# Altium footprint library A3PE600_PLUGA_V2.PcbLib: 1 footprints
Each footprint in its own frame and in the unit in brackets; x right, y up, seen from the top. Pads: shape width x height; smd on the part's side, far side on the other; paste and mask are expansions set on the pad; w line width, h text height; cw(c..) or ccw(c..) is an arc to the next point about the centre after c.
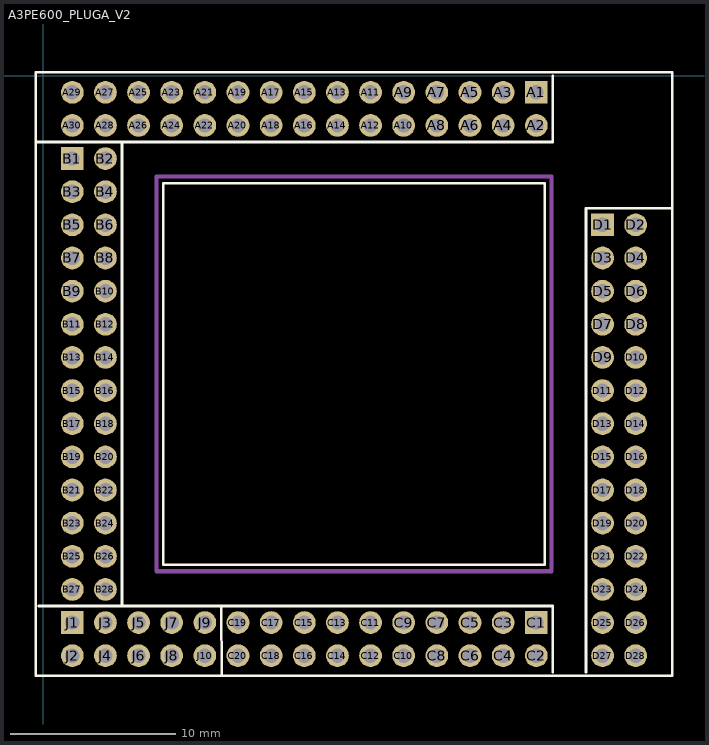
[diagram p0: the footprint, top view; thin cyan lines are the x and y axes]

## A3PE600_PLUGA_V2 [mil]
pads (116):
  rect 54x54 hole 34: A1(1171.26,-39.37) B1(68.9,-196.85) C1(1171.26,-1299.21) D1(1328.74,-354.33) J1(68.9,-1299.21)
  round 54 hole 34: A2(1171.26,-118.11) A3(1092.52,-39.37) A4(1092.52,-118.11) A5(1013.78,-39.37) A6(1013.78,-118.11) A7(935.04,-39.37) A8(935.04,-118.11) A9(856.3,-39.37) A10(856.3,-118.11) A11(777.56,-39.37) A12(777.56,-118.11) A13(698.82,-39.37) A14(698.82,-118.11) A15(620.08,-39.37) A16(620.08,-118.11) A17(541.34,-39.37) A18(541.34,-118.11) A19(462.6,-39.37) A20(462.6,-118.11) A21(383.86,-39.37) A22(383.86,-118.11) A23(305.12,-39.37) A24(305.12,-118.11) A25(226.38,-39.37) A26(226.38,-118.11) A27(147.64,-39.37) A28(147.64,-118.11) A29(68.9,-39.37) A30(68.9,-118.11) B2(147.64,-196.85) B3(68.9,-275.59) B4(147.64,-275.59) B5(68.9,-354.33) B6(147.64,-354.33) B7(68.9,-433.07) B8(147.64,-433.07) B9(68.9,-511.81) B10(147.64,-511.81) B11(68.9,-590.55) B12(147.64,-590.55) B13(68.9,-669.29) B14(147.64,-669.29) B15(68.9,-748.03) B16(147.64,-748.03) B17(68.9,-826.77) B18(147.64,-826.77) B19(68.9,-905.51) B20(147.64,-905.51) B21(68.9,-984.25) B22(147.64,-984.25) B23(68.9,-1062.99) B24(147.64,-1062.99) B25(68.9,-1141.73) B26(147.64,-1141.73) B27(68.9,-1220.47) B28(147.64,-1220.47) C2(1171.26,-1377.95) C3(1092.52,-1299.21) C4(1092.52,-1377.95) C5(1013.78,-1299.21) C6(1013.78,-1377.95) C7(935.04,-1299.21) C8(935.04,-1377.95) C9(856.3,-1299.21) C10(856.3,-1377.95) C11(777.56,-1299.21) C12(777.56,-1377.95) C13(698.82,-1299.21) C14(698.82,-1377.95) C15(620.08,-1299.21) C16(620.08,-1377.95) C17(541.34,-1299.21) C18(541.34,-1377.95) C19(462.6,-1299.21) C20(462.6,-1377.95) D2(1407.48,-354.33) D3(1328.74,-433.07) D4(1407.48,-433.07) D5(1328.74,-511.81) D6(1407.48,-511.81) D7(1328.74,-590.55) D8(1407.48,-590.55) D9(1328.74,-669.29) D10(1407.48,-669.29) D11(1328.74,-748.03) D12(1407.48,-748.03) D13(1328.74,-826.77) D14(1407.48,-826.77) D15(1328.74,-905.51) D16(1407.48,-905.51) D17(1328.74,-984.25) D18(1407.48,-984.25) D19(1328.74,-1062.99) D20(1407.48,-1062.99) D21(1328.74,-1141.73) D22(1407.48,-1141.73) D23(1328.74,-1220.47) D24(1407.48,-1220.47) D25(1328.74,-1299.21) D26(1407.48,-1299.21) D27(1328.74,-1377.95) D28(1407.48,-1377.95) J2(68.9,-1377.95) J3(147.64,-1299.21) J4(147.64,-1377.95) J5(226.38,-1299.21) J6(226.38,-1377.95) J7(305.12,-1299.21) J8(305.12,-1377.95) J9(383.86,-1299.21) J10(383.86,-1377.95)
Top Overlay:
  lines w6: -16.26,-157.48 1210.63,-157.48 1210.63,0 ; -11.26,-1259.84 423.23,-1259.84 ; 187.01,-1259.84 187.01,-157.48 ; 1210.63,-1417.32 1210.63,-1259.84 423.23,-1259.84 ; 1289.37,-1417.32 1289.37,-314.96 1493.74,-314.96 ; 423.23,-1259.84 423.74,-1424.33 423.23,-1259.84 ; -17.72,-1425.2 -17.72,7.87 1494.09,7.87 1494.09,-1425.2 -17.72,-1425.2 ; 285.43,-1161.42 285.43,-255.91 1190.94,-255.91 1190.94,-1161.42 285.43,-1161.42
Mechanical 1:
  lines w10: 269.26,-1177.37 269.26,-239.37 1207.26,-239.37 1207.26,-1177.37 269.26,-1177.37
Top Designator (Mech16):
  text "'.Designator'" at 1074.45,-762.05 h59.06
3D body "Сборка1.STEP": height 263.39, standoff -3.94, extent -11.81,-1437.01 1496.06,19.69